# EAGLE library part RFX1010 (library df4iah_rf)
Skyworks RFX1010 Front-End 50 Ohms LNA & PA LNA: 12 dB / 14 dB PA: +27 dBm
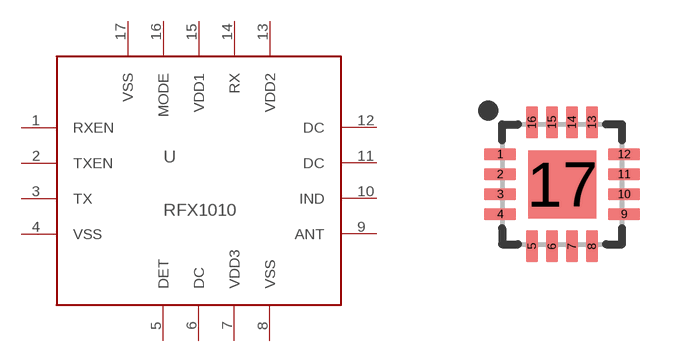
[diagram p8: symbol with the pads of QFN16-3X3-0P5-PAD; footprint QFN16-3X3-0P5-PAD]

Designator prefix U

## RFX1010  [QFN16-3X3-0P5-PAD]
1  RXEN  in
2  TXEN  in
3  TX  in
4  VSS  pas
5  DET  out
6  DC  nc
7  VDD3  pwr
8  VSS  pas
9  ANT
10  IND  pas
11  DC  nc
12  DC  nc
13  VDD2  pwr
14  RX  out
15  VDD1  pwr
16  MODE  in
17  VSS  pas

## Footprint QFN16-3X3-0P5-PAD (pad centres in mm)
16-Pin QFN - 3.0 x 3.0 mm - 0.5P - with center pad
smd 0.8 x 0.3: 1 -1.55,0.75; 2 -1.55,0.25; 3 -1.55,-0.25; 4 -1.55,-0.75; 9 1.55,-0.75; 10 1.55,-0.25; 11 1.55,0.25; 12 1.55,0.75
smd 0.3 x 0.8: 5 -0.75,-1.55; 6 -0.25,-1.55; 7 0.25,-1.55; 8 0.75,-1.55; 13 0.75,1.55; 14 0.25,1.55; 15 -0.25,1.55; 16 -0.75,1.55
smd 1.7 x 1.7: 17 0,0